# Altium schematic symbol library Power-LDO-RT9193_5P.SchLib: 1 symbol
Pins are listed as number, name and electrical type; pins without a type are passive.

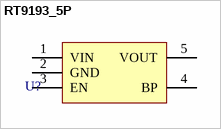
[diagram p0: symbol RT9193_5P]

## RT9193_5P
designator U?
pins: 1 VIN, 2 GND, 3 EN, 4 BP, 5 VOUT